# Altium footprint library 1761500.PcbLib: 1 footprints
Each footprint in its own frame and in the unit in brackets; x right, y up, seen from the top. Pads: shape width x height; smd on the part's side, far side on the other; paste and mask are expansions set on the pad; w line width, h text height; cw(c..) or ccw(c..) is an arc to the next point about the centre after c.
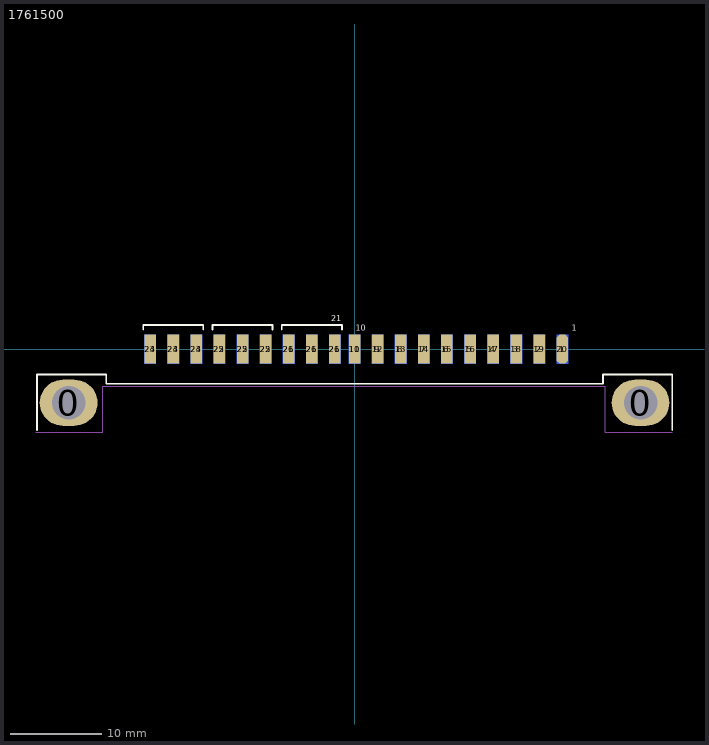
[diagram p0: the footprint, top view; thin cyan lines are the x and y axes]

## 1761500 [mil]
pads (40):
  oval 250x200 hole 145: 0(-1238,-232) 0(1238,-232)
  oct 50x125 smd: 1(900,0)
  rect 50x125 smd: 2(800,0) 3(700,0) 4(600,0) 5(500,0) 6(400,0) 7(300,0) 8(200,0) 9(100,0) 10(0,0) 21(-285,0) 21(-185,0) 21(-85,0) 22(-585,0) 22(-485,0) 22(-385,0) 23(-885,0) 23(-785,0) 23(-685,0)
  rect 50x125 smd far side: 11(0,0) 12(100,0) 13(200,0) 14(300,0) 15(400,0) 16(500,0) 17(600,0) 18(700,0) 19(800,0) 20(900,0) 24(-885,0) 24(-785,0) 24(-685,0) 25(-585,0) 25(-485,0) 25(-385,0) 26(-285,0) 26(-185,0) 26(-85,0)
TopOverlay:
  lines w8: -1375,-350 -1375,-110 -1075,-110 -1075,-150 0,-150 1075,-150 1075,-110 1375,-110 1375,-350 ; -915,85 -915,105 -785,105 -655,105 -655,85 ; -615,85 -615,105 -485,105 -355,105 -355,85 ; -315,85 -315,105 -185,105 -55,105 -55,85
  text "21" at -100,120 h25
  text "10" at 5,80 h25
  text "1" at 940,80 h25
BottomOverlay:
  lines w8: -915,85 -915,105 -785,105 -655,105 -655,85 ; -615,85 -615,105 -485,105 -355,105 -355,85 ; -315,85 -315,105 -185,105 -55,105 -55,85
  text "26" at -65,120 h25
  text "11" at 30,80 h25
  text "20" at 965,80 h25
Mechanical1:
  lines w1: -1380,-360 -1090,-360 -1090,-160 1085,-160 1085,-360 1375,-360
3D body: height 162, standoff -206, extent -1372.5,-715 1372.5,71